# Altium integrated library LEDs_SMD.IntLib: 16 symbols
Pins are listed as number, name and electrical type; pins without a type are passive.

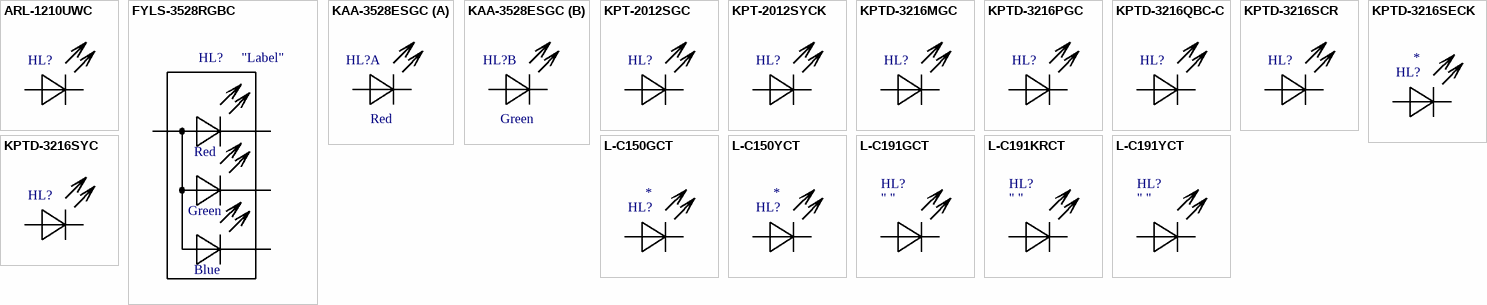
[diagram p0: symbols ARL-1210UWC to L-C191YCT]

## ARL-1210UWC
designator HL?  (value not drawn)
3.5x2.8mm SMD LED White
footprint ARL-1210 (3.5x2.8mm SMD LED)
pins: A, K

## FYLS-3528RGBC
designator HL?  Color1: Red  Color2: Green  Color3: Blue  Label: "Label"  (hidden comment: *)
3.5x2.8mm SMD LED RGB
footprint FYLS-3528 (3.5x2.8mm SMD LED)
pins: 1 K1, 2 A, 3 K3, 4 K2

## KAA-3528ESGC
designator HL?  (value not drawn)
3.5x2.8mm SMD LED Red & Green
footprint KAA-3528 (3.5x2.8mm SMD LED)
part A pins: 1 K1, 2 A1
part B pins: 3 K2, 4 A2
part A text: Red
part B text: Green

## KPT-2012SGC
designator HL?  (value not drawn)
2.0x1.2mm SMD LED Super Bright Green
footprint KPT-2012 (2.0x1.2mm SMD LED)
pins: A, K

## KPT-2012SYCK
designator HL?  (value not drawn)
2.0x1.2mm SMD LED Super Bright Yellow
footprint KPT-2012 (2.0x1.2mm SMD LED)
pins: A, K

## KPTD-3216MGC
designator HL?  (value not drawn)
3.2x1.6mm SMD LED Mega Green
footprint KPTD-3216 Green (3.2x1.6mm SMD LED Green)
pins: A, K

## KPTD-3216PGC
designator HL?  (value not drawn)
3.2x1.6mm SMD LED Pure Green
footprint KPTD-3216 Green (3.2x1.6mm SMD LED Green)
pins: A, K

## KPTD-3216QBC-C
designator HL?  (value not drawn)
3.2x1.6mm SMD LED Blue
footprint KPTD-3216 Blue (3.2x1.6mm SMD LED Blue)
pins: A, K

## KPTD-3216SCR
designator HL?  (value not drawn)
3.2x1.6mm SMD LED Super Bright Red
footprint KPTD-3216 Red (3.2x1.6mm SMD LED Red)
pins: A, K

## KPTD-3216SECK
designator HL?
3.2x1.6mm SMD LED Super Bright Orange; Mark: *
footprint KPTD-3216 Red (3.2x1.6mm SMD LED Red)
pins: A, K

## KPTD-3216SYC
designator HL?  (value not drawn)
3.2x1.6mm SMD LED Super Bright Yellow
footprint KPTD-3216 Yellow (3.2x1.6mm SMD LED Yellow)
pins: A, K

## L-C150GCT
designator HL?
3.2x1.6mm SMD LED Green; Mark: *
footprint L-C150GCT (3.2x1.6mm SMD LED Green)
pins: A, K

## L-C150YCT
designator HL?
3.2x1.6mm SMD LED Yellow; Mark: *
footprint L-C150YCT (3.2x1.6mm SMD LED Yellow)
pins: A, K

## L-C191GCT
designator HL?  Mark: " "  (hidden comment: *)
1.6x0.8mm SMD LED Green
footprint L-C191GCT (1.6x0.8mm SMD LED Green)
pins: A, K

## L-C191KRCT
designator HL?  Mark: " "  (hidden comment: *)
1.6x0.8mm SMD LED Red
footprint L-C191KRCT (1.6x0.8mm SMD LED Red)
pins: A, K

## L-C191YCT
designator HL?  Mark: " "  (hidden comment: *)
1.6x0.8mm SMD LED Yellow
footprint L-C191YCT (1.6x0.8mm SMD LED Yellow)
pins: A, K